# Altium footprint library XG_DW_POCT_2K10LED_V2.0_2024.11.151.PcbLib: 120 footprints (part 3 of 8)
Each footprint in its own frame and in the unit in brackets; x right, y up, seen from the top. Pads: shape width x height; smd on the part's side, far side on the other; paste and mask are expansions set on the pad; w line width, h text height; cw(c..) or ccw(c..) is an arc to the next point about the centre after c.
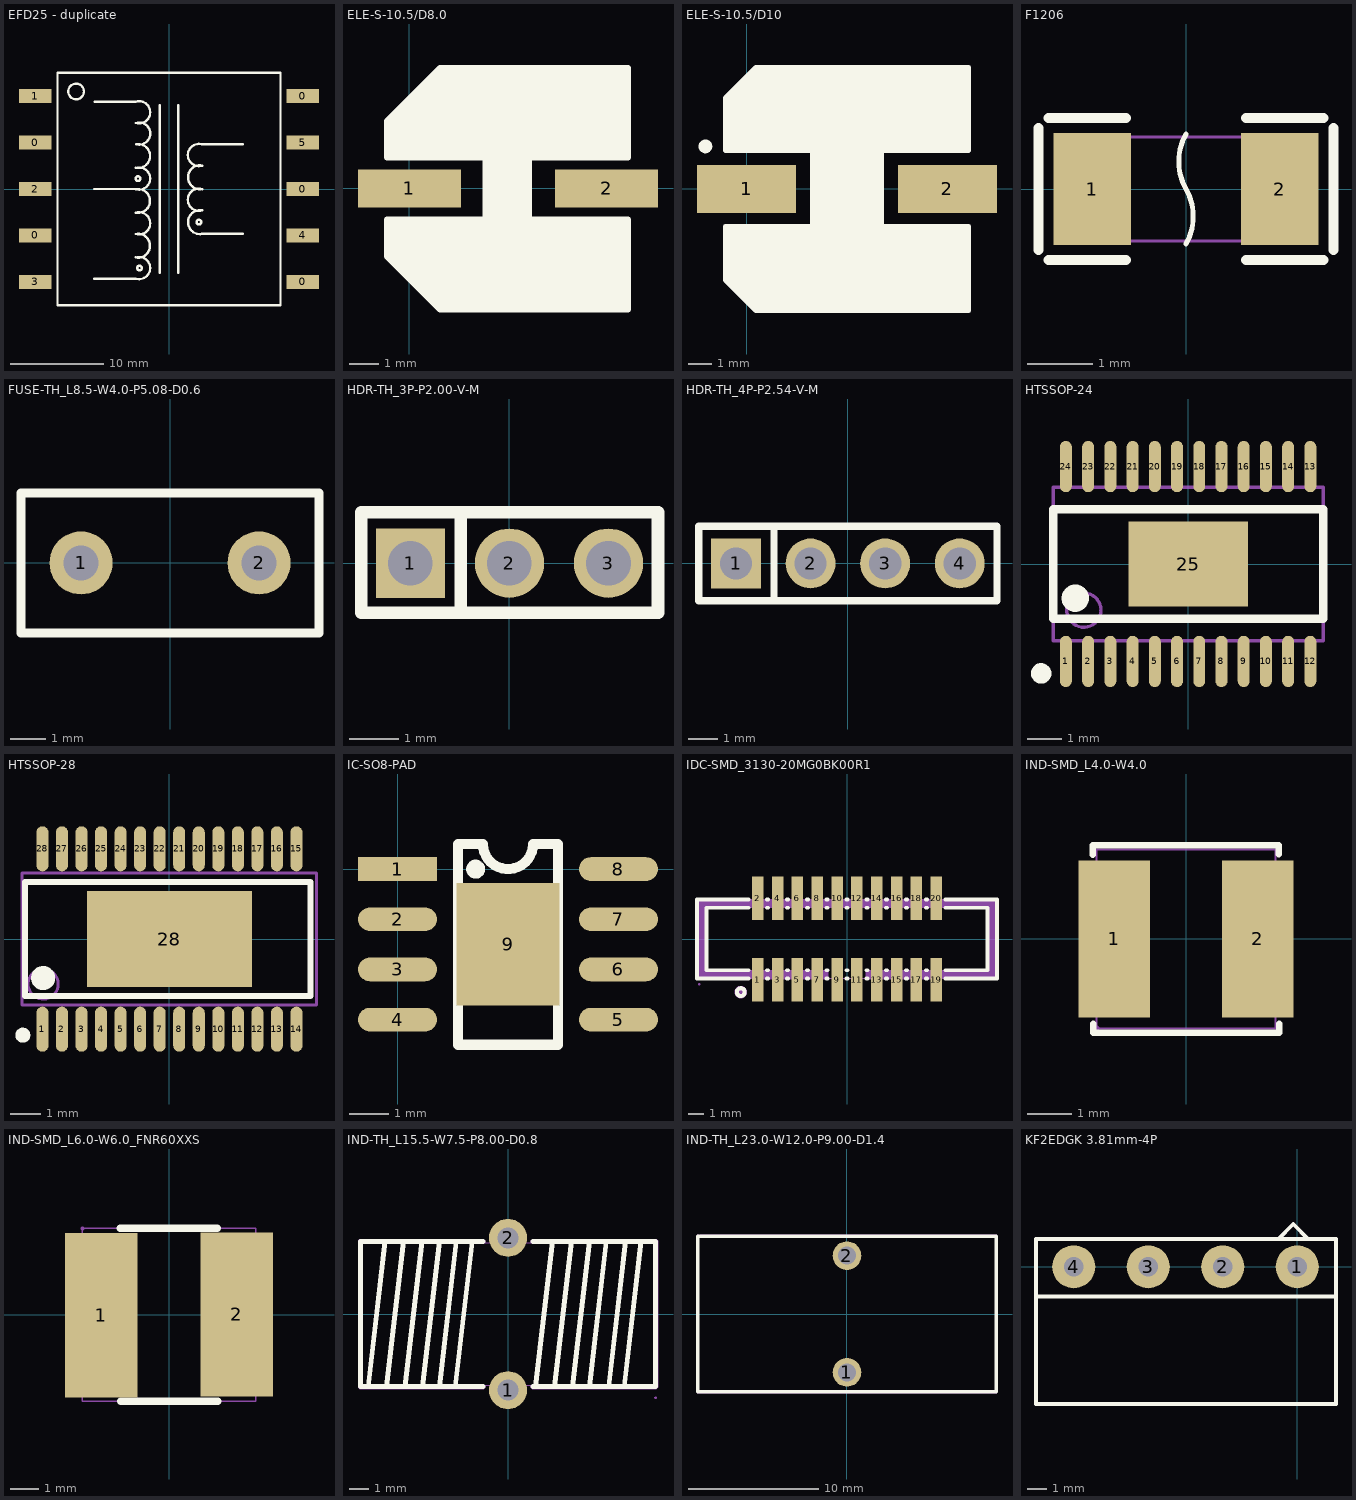
[diagram p2: the footprints below, top view; thin cyan lines are the x and y axes]

## EFD25 - duplicate [mm]
pads (10):
  rect 3.5x1.5 smd: 0(-14.4,-5) 0(-14.4,5) 0(14.4,-10) 0(14.4,0) 0(14.4,10) 1(-14.4,10) 2(-14.4,0) 3(-14.4,-10) 4(14.4,-5) 5(14.4,5)
Top Overlay:
  circle w0.254: c-10,10.5 r0.848
  circle w0.254: c-3.175,-8.509 r0.25
  circle w0.254: c3.218,-3.564 r0.25
  circle w0.254: c-3.342,1.119 r0.25
  lines w0.254: -8.06,-9.652 -3.624,-9.652 ; -8.06,0 -3.624,0 ; -8,9.398 -3.564,9.398 cw(c-3.218,8.255) -3.564,7.112 ; -3.564,-9.652 ccw(c-3.218,-8.509) -3.564,-7.366 ; -3.564,-7.382 ccw(c-3.342,-6.112) -3.564,-4.842 ccw(c-3.218,-3.699) -3.564,-2.556 ccw(c-3.342,-1.286) -3.564,-0.016 ccw(c-3.218,1.127) -3.564,2.27 ; -3.556,2.286 ccw(c-3.334,3.556) -3.556,4.826 ccw(c-3.21,5.969) -3.556,7.112 ; -1,-9 -1,9 ; 1,-9 1,9 ; 3.497,-4.826 7.933,-4.826 ; 3.497,4.826 7.933,4.826 ; 3.564,-4.834 cw(c3.342,-3.564) 3.564,-2.294 cw(c3.218,-1.151) 3.564,-0.008 cw(c3.342,1.262) 3.564,2.532 ; 3.564,2.516 cw(c3.218,3.659) 3.564,4.802 ; -12,-12.5 -12,12.5 12,12.5 12,-12.5 -12,-12.5

## ELE-S-10.5/D8.0 [mm]
pads (2):
  rect 3.5x1.3 smd: 1(0,0) 2(6.7,0)
Top Overlay:
  region: 1.525,-1.12 -0.71,-1.12 -0.71,-2.399 1.525,-2.399
  region: 2.13,2.37 -0.766,2.37 -0.766,1.083 2.13,1.083
  region: 4.005,1.19 2.54,1.19 2.54,-1.384 4.005,-1.384
  region: 7.401,-1.08 1,-1.08 1,-4.137 7.401,-4.137
  rectangle: 0.98,1.061 7.381,4.1
  lines w0.203: -0.567,-2.388 1.211,-2.388 ; -0.567,2.388 1.592,2.388 ; -0.44,-2.515 1.237,-2.515 ; -0.414,2.54 1.592,2.54 ; -0.262,-2.667 1.11,-2.667 ; -0.262,2.692 1.135,2.692 ; -0.135,-2.819 1.211,-2.819 ; -0.084,2.845 1.262,2.845 ; -0.008,-2.997 1.287,-2.997 ; 0.068,2.997 1.287,2.997 ; 0.195,-3.15 1.262,-3.15 ; 0.221,3.15 1.262,3.15 ; 0.348,-3.327 1.186,-3.327 ; 0.398,3.302 1.364,3.302 ; 0.525,3.454 1.491,3.454 ; 0.551,-3.48 1.186,-3.48 ; 0.678,-3.658 1.262,-3.658 ; 0.703,3.581 1.44,3.581 ; 0.754,3.683 1.516,3.683 ; 0.856,-3.785 1.364,-3.785 ; 0.856,3.759 1.389,3.759 ; 0.957,-3.886 1.389,-3.886 ; 0.957,3.912 1.44,3.912 ; 4.065,-1.058 4.065,1.05 4.522,1.05 ; 2.592,-1.058 7.434,-1.058 7.434,-4.115 1.033,-4.115 -0.77,-2.311 -0.77,-1.058 2.592,-1.058 ; 2.592,-1.058 2.592,1.05 ; 2.592,1.05 7.434,1.05 7.434,4.089 1.033,4.089 -0.77,2.286 -0.77,1.05 2.592,1.05

## ELE-S-10.5/D10 [mm]
pads (2):
  rect 4.2x2.05 smd: 1(0,0) 2(8.5,0)
Top Overlay:
  circle w0.305: c-1.745,1.803 r0.14
  rectangle: 1.011,-4.435 1.346,-4.221
  rectangle: 0.916,-4.34 1.346,-3.995
  rectangle: 0.797,-4.221 1.346,-3.995
  rectangle: 0.68,-4.104 1.702,-3.777
  rectangle: 0.571,-3.995 1.346,-3.785
  rectangle: 0.467,-3.892 1.702,-3.561
  rectangle: 0.353,-3.777 1.702,-3.561
  rectangle: 0.241,-3.665 1.702,-3.458
  rectangle: 0.137,-3.561 1.702,-3.257
  rectangle: 0.034,-3.458 1.702,-3.257
  rectangle: -0.07,-3.354 1.473,-3.156
  rectangle: -0.167,-3.257 1.702,-2.927
  rectangle: -0.269,-3.156 1.473,-2.821
  rectangle: -0.385,-3.039 1.702,-2.565
  rectangle: -0.497,-2.927 1.702,-2.565
  rectangle: -0.603,-2.821 1.473,-2.524
  rectangle: 1.118,-4.547 1.473,-2.524
  rectangle: 1.245,-4.775 1.956,-2.524
  rectangle: 1.473,-4.978 1.956,-2.524
  rectangle: -0.787,-2.718 2.388,-2.286
  rectangle: -0.9,-2.524 1.956,-1.575
  rectangle: 1.011,4.271 1.346,4.486
  rectangle: 0.916,4.046 1.346,4.391
  rectangle: 0.797,4.046 1.346,4.271
  rectangle: 0.68,3.828 1.702,4.155
  rectangle: 0.571,3.835 1.346,4.046
  rectangle: 0.467,3.612 1.702,3.942
  rectangle: 0.353,3.612 1.702,3.828
  rectangle: 0.241,3.509 1.702,3.716
  rectangle: 0.137,3.308 1.702,3.612
  rectangle: 0.034,3.308 1.702,3.509
  rectangle: -0.07,3.206 1.473,3.405
  rectangle: -0.167,2.978 1.702,3.308
  rectangle: -0.269,2.872 1.473,3.206
  rectangle: -0.385,2.616 1.702,3.09
  rectangle: -0.497,2.616 1.702,2.978
  rectangle: -0.603,2.575 1.473,2.872
  rectangle: 1.118,2.575 1.473,4.597
  rectangle: 1.245,2.575 1.956,4.826
  rectangle: 1.473,2.575 1.956,5.029
  rectangle: -0.787,2.337 2.388,2.769
  rectangle: -0.9,1.626 1.956,2.575
  rectangle: 2.769,-4.394 5.69,2.413
  rectangle: 1.675,1.626 9.4,5.15
  rectangle: 1.6,-5.15 2.54,-1.575
  rectangle: 2.159,-5.15 9.4,-1.575
  rectangle: -0.9,2.68 0.149,3.86
  rectangle: -0.763,3.612 0.467,4.011
  rectangle: 0.39,4.155 1.702,5.15
  rectangle: 0.26,3.828 0.68,5.02
  rectangle: 0.098,3.942 0.467,4.897
  rectangle: -0.023,3.828 0.26,4.737
  rectangle: -0.15,3.86 0.149,4.61
  rectangle: -0.283,3.828 -0.023,4.477
  rectangle: -0.41,3.86 -0.15,4.35
  rectangle: -0.541,3.828 -0.283,4.219
  rectangle: -0.634,3.86 -0.41,4.126
  rectangle: 1.011,-4.486 1.346,-4.271
  rectangle: 0.916,-4.391 1.346,-4.046
  rectangle: 0.797,-4.271 1.346,-4.046
  rectangle: 0.68,-4.155 1.702,-3.828
  rectangle: 0.571,-4.046 1.346,-3.835
  rectangle: 0.467,-3.942 1.702,-3.612
  rectangle: 0.353,-3.828 1.702,-3.612
  rectangle: 0.241,-3.716 1.702,-3.509
  rectangle: 0.137,-3.612 1.702,-3.308
  rectangle: 0.034,-3.509 1.702,-3.308
  rectangle: -0.07,-3.405 1.473,-3.206
  rectangle: -0.167,-3.308 1.702,-2.978
  rectangle: -0.269,-3.206 1.473,-2.872
  rectangle: -0.385,-3.09 1.702,-2.616
  rectangle: -0.497,-2.978 1.702,-2.616
  rectangle: -0.603,-2.872 1.473,-2.575
  rectangle: 1.118,-4.597 1.473,-2.575
  rectangle: 1.245,-4.826 1.956,-2.575
  rectangle: 1.473,-5.029 1.956,-2.575
  rectangle: -0.787,-2.769 2.388,-2.337
  rectangle: -0.9,-2.575 1.956,-1.626
  rectangle: 1.675,-5.15 9.4,-1.626
  rectangle: -0.9,-3.86 0.149,-2.68
  rectangle: -0.763,-4.011 0.467,-3.612
  rectangle: 0.39,-5.15 1.702,-4.155
  rectangle: 0.26,-5.02 0.68,-3.828
  rectangle: 0.098,-4.897 0.467,-3.942
  rectangle: -0.023,-4.737 0.26,-3.828
  rectangle: -0.15,-4.61 0.149,-3.86
  rectangle: -0.283,-4.477 -0.023,-3.828
  rectangle: -0.41,-4.35 -0.15,-3.86
  rectangle: -0.541,-4.219 -0.283,-3.828
  rectangle: -0.634,-4.126 -0.41,-3.86
  lines w0.2: -0.9,-2.524 1.675,-5.099 ; -0.9,2.575 1.675,5.15 9.4,5.15 ; 1.675,-5.15 9.4,-5.15 1.675,-5.15 ; 1.675,-5.15 -0.9,-2.575 1.675,-5.15
  lines w0.203: -0.9,-2.524 -0.9,-1.575 ; 2.648,-5.15 0.39,-5.15 -0.9,-3.86 -0.9,-2.575 ; 2.648,5.15 0.39,5.15 -0.9,3.86 -0.9,2.575 -0.9,1.626 9.4,1.626 9.4,5.15 ; 2.794,-2.311 2.794,0 2.794,2.108 ; 5.706,-2.302 5.706,0 5.706,1.998 ; -0.9,-2.575 -0.9,-1.575 ; -0.9,-2.575 -0.9,-1.626 9.4,-1.626 9.4,-5.15 9.4,-1.575 -0.9,-1.575

## F1206 [mm]
pads (2):
  rect 1.19x1.728 smd: 1(-1.445,0) 2(1.445,0)
Top Overlay:
  lines w0.076: 0,-0.845 ccw(c-0.732,-0.422) 0,0 cw(c0.732,0.422) 0,0.845
  lines w0.152: -2.269,-0.94 -2.269,0.94 ; -2.116,-1.093 -0.926,-1.093 ; -2.116,1.093 -0.926,1.093 ; 0.926,-1.093 2.116,-1.093 ; 0.926,1.093 2.116,1.093 ; 2.269,-0.94 2.269,0.94
Mechanical 15:
  region: 1.1,-0.8 1.6,-0.8 1.6,0.8 1.1,0.8
  region: -1.6,-0.8 -1.1,-0.8 -1.1,0.8 -1.6,0.8
  region: -1.66,-0.8 -1.659,-0.825 -1.624,-0.859 -1.575,-0.859 -1.541,-0.825 -1.54,-0.8 -1.541,-0.776 -1.575,-0.741 -1.624,-0.741 -1.659,-0.776 -1.66,-0.8
  lines w0.051: -1.6,-0.8 -1.6,0.8 1.6,0.8 1.6,-0.8 -1.6,-0.8

## FUSE-TH_L8.5-W4.0-P5.08-D0.6 [mm]
pads (2):
  round 1.8 hole 1: 1(-2.54,0) 2(2.54,0)
Top Overlay:
  lines w0.254: -4.25,-2 4.25,-2 4.25,2 -4.25,2 -4.25,-2
Mechanical 15:
  region: -4.19,-2 -4.19,-1.975 -4.225,-1.94 -4.275,-1.94 -4.31,-1.975 -4.31,-2 -4.31,-2.025 -4.275,-2.06 -4.225,-2.06 -4.19,-2.025 -4.19,-2
  region: 2.84,0 2.839,0.059 2.792,0.167 2.708,0.25 2.599,0.295 2.481,0.295 2.372,0.25 2.288,0.167 2.241,0.059 2.24,0 2.241,-0.059 2.288,-0.167 2.372,-0.25 2.481,-0.294 2.599,-0.294 2.708,-0.25 2.792,-0.167 2.839,-0.059 2.84,0
  region: -2.24,0 -2.241,0.059 -2.288,0.167 -2.372,0.25 -2.481,0.295 -2.599,0.295 -2.708,0.25 -2.792,0.167 -2.839,0.059 -2.84,0 -2.839,-0.059 -2.792,-0.167 -2.708,-0.25 -2.599,-0.294 -2.481,-0.294 -2.372,-0.25 -2.288,-0.167 -2.241,-0.059 -2.24,0
  lines w0.051: -4.25,-2 -4.25,2 4.25,2 4.25,-2 -4.25,-2

## HDR-TH_3P-P2.00-V-M [mm]
pads (3):
  rect 1.4x1.4 hole 0.9: 1(-2,0)
  round 1.4 hole 0.9: 2(0,0) 3(2,0)
Top Overlay:
  lines w0.254: -0.986,-1 -0.986,1.025 ; -2.991,-1 -2.991,1.025 3.001,1.025 3.001,-1 -2.991,-1
Mechanical 15:
  region: -2.25,0.25 -1.75,0.25 -1.75,-0.25 -2.25,-0.25
  region: -0.25,0.25 0.25,0.25 0.25,-0.25 -0.25,-0.25
  region: 1.75,0.25 2.25,0.25 2.25,-0.25 1.75,-0.25
  region: -2.94,-1 -2.94,-0.975 -2.975,-0.94 -3.025,-0.94 -3.06,-0.975 -3.06,-1 -3.06,-1.025 -3.025,-1.06 -2.975,-1.06 -2.94,-1.025 -2.94,-1
  lines w0.051: -3,-1 3,-1 3,1 -3,1 -3,-1

## HDR-TH_4P-P2.54-V-M [mm]
pads (4):
  rect 1.7x1.7 hole 1.1: 1(-3.81,0)
  round 1.7 hole 1.1: 2(-1.27,0) 3(1.27,0) 4(3.81,0)
Top Overlay:
  lines w0.254: -2.516,-1.27 -2.516,1.27 ; -2.516,1.27 -5.08,1.27 -5.08,-1.27 5.08,-1.27 5.08,1.27 -2.516,1.27
Mechanical 15:
  region: 3.49,0.32 4.13,0.32 4.13,-0.32 3.49,-0.32
  region: 0.95,0.32 1.59,0.32 1.59,-0.32 0.95,-0.32
  region: -1.59,0.32 -0.95,0.32 -0.95,-0.32 -1.59,-0.32
  region: -4.13,0.32 -3.49,0.32 -3.49,-0.32 -4.13,-0.32
  region: -5.02,-1.25 -5.02,-1.225 -5.055,-1.19 -5.105,-1.19 -5.14,-1.225 -5.14,-1.25 -5.14,-1.275 -5.105,-1.31 -5.055,-1.31 -5.02,-1.275 -5.02,-1.25
  lines w0.051: -5.08,-1.25 5.08,-1.25 5.08,1.25 -5.08,1.25 -5.08,-1.25

## HTSSOP-24 [mm]
pads (25):
  oval 0.35x1.5 smd: 1(-3.575,-2.85) 2(-2.925,-2.85) 3(-2.275,-2.85) 4(-1.625,-2.85) 5(-0.975,-2.85) 6(-0.325,-2.85) 7(0.325,-2.85) 8(0.975,-2.85) 9(1.625,-2.85) 10(2.275,-2.85) 11(2.925,-2.85) 12(3.575,-2.85) 13(3.575,2.85) 14(2.925,2.85) 15(2.275,2.85) 16(1.625,2.85) 17(0.975,2.85) 18(0.325,2.85) 19(-0.325,2.85) 20(-0.975,2.85) 21(-1.625,2.85) 22(-2.275,2.85) 23(-2.925,2.85) 24(-3.575,2.85)
  rect 3.5x2.5 smd mask+0.051: 25(0,0)
Top Overlay:
  circle w0.3: c-4.3,-3.2 r0.15
  circle w0.4: c-3.3,-1 r0.2
  lines w0.254: -3.95,-1.6 -3.95,1.6 3.95,1.6 3.95,-1.6 -3.95,-1.6
Mechanical 13:
  circle w0.1: c-3.05,-1.35 r0.5
  lines w0.1: -3.95,-2.25 -3.95,2.25 3.95,2.25 3.95,-2.25 -3.95,-2.25

## HTSSOP-28 [mm]
pads (29):
  oval 0.4x1.5 smd: 1(-4.225,-3) 2(-3.575,-3) 3(-2.925,-3) 4(-2.275,-3) 5(-1.625,-3) 6(-0.975,-3) 7(-0.325,-3) 8(0.325,-3) 9(0.975,-3) 10(1.625,-3) 11(2.275,-3) 12(2.925,-3) 13(3.575,-3) 14(4.225,-3) 15(4.225,3) 16(3.575,3) 17(2.925,3) 18(2.275,3) 19(1.625,3) 20(0.975,3) 21(0.325,3) 22(-0.325,3) 23(-0.975,3) 24(-1.625,3) 25(-2.275,3) 26(-2.925,3) 27(-3.575,3) 28(-4.225,3)
  rect 5.5x3.2 smd mask+0.051: 28(0,0)
Top Overlay:
  circle w0.4: c-4.2,-1.3 r0.2
  circle w0.25: c-4.88,-3.2 r0.125
  lines w0.2: -4.8,-1.9 -4.8,1.9 4.7,1.9 4.7,-1.9 -4.8,-1.9
Mechanical 13:
  circle w0.1: c-4.2,-1.5 r0.5
  lines w0.1: -4.9,-2.2 4.9,-2.2 4.9,2.2 -4.9,2.2 -4.9,-2.2

## IC-SO8-PAD [mm]
pads (9):
  rect 2x0.6 smd: 1(0,0)
  oval 2x0.6 smd: 2(0,-1.27) 3(0,-2.54) 4(0,-3.81) 5(5.588,-3.81) 6(5.588,-2.54) 7(5.588,-1.27) 8(5.588,0)
  rect 2.6x3.1 smd: 9(2.794,-1.905)
Top Overlay:
  circle w0.254: c1.977,-0.004 r0.114
  lines w0.254: 2.794,-2.159 2.794,-1.905 ; 2.794,-1.905 3.048,-1.905 2.794,-1.905 ; 1.524,-4.445 4.064,-4.445 4.064,0.635 3.429,0.635 cw(c2.794,0.635) 2.159,0.635 1.524,0.635 1.524,-4.445

## IDC-SMD_3130-20MG0BK00R1 [mm]
pads (20):
  rect 0.74x2.778 smd paste+0 mask+0.102: 1(-5.715,-2.61) 2(-5.715,2.61) 3(-4.445,-2.61) 4(-4.445,2.61) 5(-3.175,-2.61) 6(-3.175,2.61) 7(-1.905,-2.61) 8(-1.905,2.61) 9(-0.635,-2.61) 10(-0.635,2.61) 11(0.635,-2.61) 12(0.635,2.61) 13(1.905,-2.61) 14(1.905,2.61) 15(3.175,-2.61) 16(3.175,2.61) 17(4.445,-2.61) 18(4.445,2.61) 19(5.715,-2.61) 20(5.715,2.61)
Top Overlay:
  circle w0.254: c-6.8,-3.4 r0.25
  lines w0.254: -6.316,-2.54 -9.6,-2.54 -9.6,2.54 -6.316,2.54 ; -6.316,-2 -9,-2 -9,2 -6.316,2 ; -5.114,-2.54 -5.046,-2.54 ; -5.114,-2 -5.046,-2 ; -5.114,2 -5.046,2 ; -5.114,2.54 -5.046,2.54 ; -3.844,-2.54 -3.776,-2.54 ; -3.844,-2 -3.776,-2 ; -3.844,2 -3.776,2 ; -3.844,2.54 -3.776,2.54 ; -2.574,-2.54 -2.506,-2.54 ; -2.574,-2 -2.506,-2 ; -2.574,2 -2.506,2 ; -2.574,2.54 -2.506,2.54 ; -1.304,-2.54 -1.236,-2.54 ; -1.304,-2 -1.236,-2 ; -1.304,2 -1.236,2 ; -1.304,2.54 -1.236,2.54 ; -0.034,-2.54 0.034,-2.54 ; -0.034,-2 0.034,-2 ; -0.034,2 0.034,2 ; -0.034,2.54 0.034,2.54 ; 1.236,-2.54 1.304,-2.54 ; 1.236,-2 1.304,-2 ; 1.236,2 1.304,2 ; 1.236,2.54 1.304,2.54 ; 2.506,-2.54 2.574,-2.54 ; 2.506,-2 2.574,-2 ; 2.506,2 2.574,2 ; 2.506,2.54 2.574,2.54 ; 3.776,-2.54 3.844,-2.54 ; 3.776,-2 3.844,-2 ; 3.776,2 3.844,2 ; 3.776,2.54 3.844,2.54 ; 5.046,-2.54 5.114,-2.54 ; 5.046,-2 5.114,-2 ; 5.046,2 5.114,2 ; 5.046,2.54 5.114,2.54 ; 6.316,-2.54 9.6,-2.54 9.6,2.54 6.316,2.54 ; 6.316,-2 9,-2 9,2 6.316,2
Mechanical 6:
  circle w0.4: c-6.8,-3.4 r0.2
  region: -1.2,-2 -1.2,-2.6 -9.6,-2.54 -9.6,2.54 9.6,2.54 9.6,-2.54 1.2,-2.6 1.2,-2 9,-2 9,2 -9,2 -9,-2
Mechanical 15:
  region: -9.39,-2.9 -9.391,-2.876 -9.426,-2.843 -9.474,-2.843 -9.509,-2.876 -9.51,-2.9 -9.509,-2.924 -9.474,-2.957 -9.426,-2.957 -9.391,-2.924 -9.39,-2.9
  region: -5.915,-1.509 -5.515,-1.509 -5.515,-3.509 -5.915,-3.509
  region: -5.915,3.51 -5.515,3.51 -5.515,1.51 -5.915,1.51
  region: -4.645,-1.509 -4.245,-1.509 -4.245,-3.509 -4.645,-3.509
  region: -4.645,3.51 -4.245,3.51 -4.245,1.51 -4.645,1.51
  region: -3.375,-1.509 -2.975,-1.509 -2.975,-3.509 -3.375,-3.509
  region: -3.375,3.51 -2.975,3.51 -2.975,1.51 -3.375,1.51
  region: -2.105,-1.509 -1.705,-1.509 -1.705,-3.509 -2.105,-3.509
  region: -2.105,3.51 -1.705,3.51 -1.705,1.51 -2.105,1.51
  region: -0.835,-1.509 -0.435,-1.509 -0.435,-3.509 -0.835,-3.509
  region: -0.835,3.51 -0.435,3.51 -0.435,1.51 -0.835,1.51
  region: 0.435,-1.509 0.835,-1.509 0.835,-3.509 0.435,-3.509
  region: 0.435,3.51 0.835,3.51 0.835,1.51 0.435,1.51
  region: 1.705,-1.509 2.105,-1.509 2.105,-3.509 1.705,-3.509
  region: 1.705,3.51 2.105,3.51 2.105,1.51 1.705,1.51
  region: 2.975,-1.509 3.375,-1.509 3.375,-3.509 2.975,-3.509
  region: 2.975,3.51 3.375,3.51 3.375,1.51 2.975,1.51
  region: 4.245,-1.509 4.645,-1.509 4.645,-3.509 4.245,-3.509
  region: 4.245,3.51 4.645,3.51 4.645,1.51 4.245,1.51
  region: 5.515,-1.509 5.915,-1.509 5.915,-3.509 5.515,-3.509
  region: 5.515,3.51 5.915,3.51 5.915,1.51 5.515,1.51
  lines w0.051: -9.45,-2.5 -9.45,2.5 9.45,2.5 9.45,-2.5 -9.45,-2.5

## IND-SMD_L4.0-W4.0 [mm]
pads (2):
  rect 1.6x3.5 smd: 1(-1.6,0) 2(1.6,0)
Top Overlay:
  lines w0.15: -2.08,1.88 -2.083,2.095 2.07,2.095 2.07,1.9 ; -2.07,-1.89 -2.07,-2.096 2.082,-2.096 2.08,-1.9
Mechanical 15:
  region: -2,1.65 -1.05,1.65 -1.05,-1.65 -2,-1.65
  region: 1.05,1.65 2,1.65 2,-1.65 1.05,-1.65
  region: -2,-2.06 -1.976,-2.059 -1.941,-2.024 -1.941,-1.976 -1.976,-1.941 -2,-1.94 -2.024,-1.941 -2.059,-1.976 -2.059,-2.024 -2.024,-2.059 -2,-2.06
  lines w0.051: -2,-2 2,-2 2,2 -2,2 -2,-2

## IND-SMD_L6.0-W6.0_FNR60XXS [mm]
pads (2):
  rect 2.5x5.7 smd: 1(-2.35,-0.013) 2(2.35,0.013)
Top Overlay:
  lines w0.254: -1.693,3 1.671,3 ; -1.671,-3 1.693,-3
Mechanical 15:
  region: -2.94,3 -2.94,3.025 -2.975,3.06 -3.025,3.06 -3.06,3.025 -3.06,3 -3.06,2.975 -3.025,2.94 -2.975,2.94 -2.94,2.975 -2.94,3
  region: -1.45,2.437 -1.45,-2.463 -3,-2.463 -3,2.437
  region: 1.45,-2.437 1.45,2.463 3,2.463 3,-2.437
  lines w0.051: -3,-3 3,-3 3,3 -3,3 -3,-3

## IND-TH_L15.5-W7.5-P8.00-D0.8 [mm]
pads (2):
  round 2 hole 1.1: 1(0,-4) 2(0,4)
Top Overlay:
  lines w0.254: -7.338,-3.81 -6.449,3.81 ; -6.372,-3.81 -5.483,3.81 ; -5.407,-3.81 -4.518,3.81 ; -4.492,-3.81 -3.603,3.81 ; -3.603,-3.81 -2.714,3.81 ; -2.765,-3.81 -1.876,3.81 ; -1.317,-3.81 -7.747,-3.81 -7.747,3.81 -1.317,3.81 ; 1.318,-3.81 7.747,-3.81 7.747,3.81 1.318,3.81 ; 1.451,-3.81 2.34,3.81 ; 2.442,-3.81 3.331,3.81 ; 3.382,-3.81 4.271,3.81 ; 4.271,-3.81 5.16,3.81 ; 5.287,-3.81 6.176,3.81 ; 6.1,-3.81 6.989,3.81
Mechanical 6:
  region: 1.318,-3.683 7.62,-3.683 7.62,3.683 1.318,3.683 1.266,3.683 1.191,3.757 1.191,3.863 1.266,3.937 1.318,3.937 7.747,3.937 7.772,3.937 7.819,3.918 7.855,3.882 7.874,3.835 7.874,3.81 7.874,-3.81 7.874,-3.835 7.855,-3.882 7.819,-3.918 7.772,-3.937 7.747,-3.937 1.318,-3.937 1.266,-3.937 1.191,-3.863 1.191,-3.757 1.266,-3.683 1.318,-3.683
  region: -1.317,3.683 -7.62,3.683 -7.62,-3.683 -1.317,-3.683 -1.265,-3.683 -1.19,-3.757 -1.19,-3.863 -1.265,-3.937 -1.317,-3.937 -7.747,-3.937 -7.772,-3.937 -7.819,-3.918 -7.855,-3.882 -7.874,-3.835 -7.874,-3.81 -7.874,3.81 -7.874,3.835 -7.855,3.882 -7.819,3.918 -7.772,3.937 -7.747,3.937 -1.317,3.937 -1.265,3.937 -1.19,3.863 -1.19,3.757 -1.265,3.683 -1.317,3.683
Mechanical 15:
  region: 0.4,-4 0.4,-4.08 0.339,-4.227 0.227,-4.339 0.08,-4.4 -0.08,-4.4 -0.227,-4.339 -0.339,-4.227 -0.4,-4.08 -0.4,-4 -0.4,-3.92 -0.339,-3.773 -0.227,-3.661 -0.08,-3.6 0.08,-3.6 0.227,-3.661 0.339,-3.773 0.4,-3.92 0.4,-4
  region: 0.4,4 0.4,3.92 0.339,3.773 0.227,3.661 0.08,3.6 -0.08,3.6 -0.227,3.661 -0.339,3.773 -0.4,3.92 -0.4,4 -0.4,4.08 -0.339,4.227 -0.227,4.339 -0.08,4.4 0.08,4.4 0.227,4.339 0.339,4.227 0.4,4.08 0.4,4
  region: 7.81,-4.4 7.81,-4.425 7.775,-4.46 7.725,-4.46 7.69,-4.425 7.69,-4.4 7.69,-4.375 7.725,-4.34 7.775,-4.34 7.81,-4.375 7.81,-4.4
  lines w0.051: -7.75,-3.75 7.75,-3.75 7.75,3.75 -7.75,3.75 -7.75,-3.75

## IND-TH_L23.0-W12.0-P9.00-D1.4 [mm]
pads (2):
  round 2.2 hole 1.4 paste+0 mask+0.05: 1(0,-4.5) 2(0,4.5)
Top Overlay:
  lines w0.254: -11.5,-6 -11.5,6 11.5,6 11.5,-6 -11.5,-6
Mechanical 6:
  region: -11.43,6.096 -11.43,-5.969 11.43,-5.969 11.43,5.969 -11.303,5.969 -11.303,6.096 11.557,6.096 11.557,-6.096 -11.557,-6.096 -11.557,6.096
Mechanical 15:
  region: 11.5,-6.06 11.524,-6.06 11.559,-6.025 11.559,-5.976 11.525,-5.941 11.5,-5.94 11.476,-5.941 11.441,-5.975 11.441,-6.024 11.476,-6.059 11.5,-6.06
  region: 0,3.9 0.119,3.9 0.34,3.991 0.509,4.16 0.6,4.381 0.6,4.619 0.509,4.84 0.34,5.009 0.119,5.1 0,5.1 -0.119,5.1 -0.34,5.009 -0.509,4.84 -0.6,4.619 -0.6,4.381 -0.509,4.16 -0.34,3.991 -0.119,3.9 0,3.9
  region: 0,-5.1 0.119,-5.1 0.34,-5.009 0.509,-4.84 0.6,-4.619 0.6,-4.381 0.509,-4.16 0.34,-3.991 0.119,-3.9 0,-3.9 -0.119,-3.9 -0.34,-3.991 -0.509,-4.16 -0.6,-4.381 -0.6,-4.619 -0.509,-4.84 -0.34,-5.009 -0.119,-5.1 0,-5.1
  lines w0.051: -11.5,-6 -11.5,6 11.5,6 11.5,-6 -11.5,-6

## KF2EDGK 3.81mm-4P [mm]
height 7.7
pads (4):
  round 2.2 hole 1: 1(0,0) 2(-3.81,0) 3(-7.62,0) 4(-11.43,0)
Top Overlay:
  lines w0.2: -13.284,-1.524 1.905,-1.524 1.956,-1.473 ; -0.965,1.422 -0.203,2.184 0.559,1.422 ; -13.36,-7.01 -13.36,1.422 1.981,1.422 1.981,-7.01 -13.36,-7.01